# EAGLE library part IR1150ISTRPBF (library International_Rectifier_By_element14_Batch_1)
uPFC ONE CYCLE CONTROL PFC IC
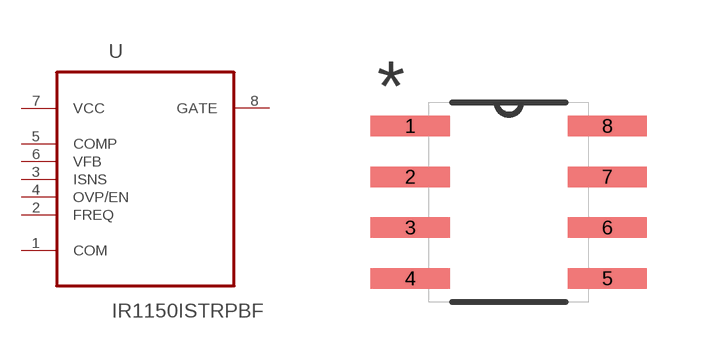
[diagram p24: symbol with the pads of SOIC127P600X175-8N; footprint SOIC127P600X175-8N]

Designator prefix U

## IR1150ISTRPBF (MPN: IR1150ISTRPBF; OC_FARNELL: 1081506; OC_NEWARK: -; PACKAGE: SOIC-8; SUPPLIER: INTERNATIONAL RECTIFIER)  [SOIC127P600X175-8N]
1  COM  pas
2  FREQ  in
3  ISNS  in
4  OVP/EN  in
5  COMP  in
6  VFB  in
7  VCC  pwr
8  GATE  out

## Footprint SOIC127P600X175-8N (pad centres in mm)
smd 1.981 x 0.508: 1 -2.464,1.905; 2 -2.464,0.635; 3 -2.464,-0.635; 4 -2.464,-1.905; 5 2.464,-1.905; 6 2.464,-0.635; 7 2.464,0.635; 8 2.464,1.905